# Altium footprint library PcbLib1.PcbLib: 3 footprints
Each footprint in its own frame and in the unit in brackets; x right, y up, seen from the top. Pads: shape width x height; smd on the part's side, far side on the other; paste and mask are expansions set on the pad; w line width, h text height; cw(c..) or ccw(c..) is an arc to the next point about the centre after c.
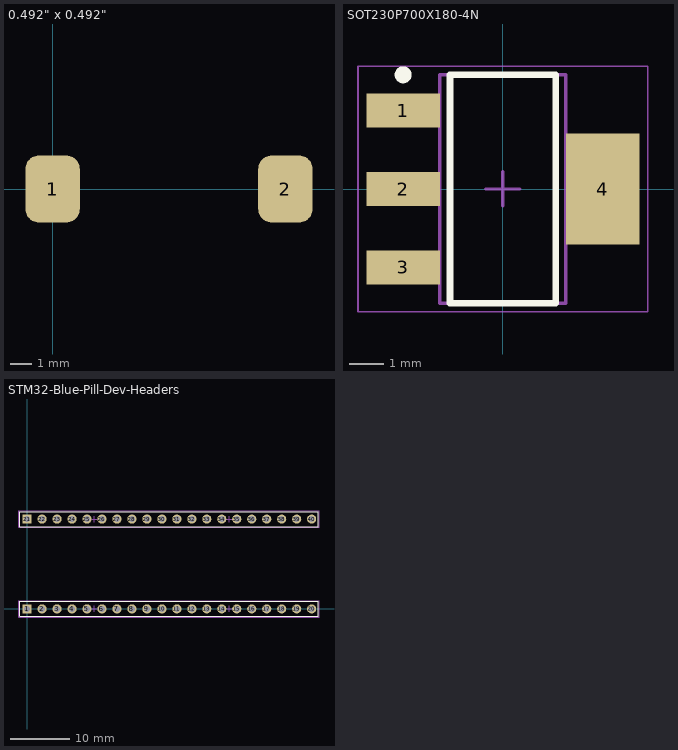
[diagram p0: the footprints below, top view; thin cyan lines are the x and y axes]

## 0.492" x 0.492" [mm]
pads (2):
  rrect50% 2.6x3.2 all layers, no hole: 1(0,0) 2(11.1,0)
3D body: height 6.5, standoff 0.01, extent -0.75,-6.25 11.75,6.25

## SOT230P700X180-4N [mm] "SOT223, 4-Leads, Body 6.50x7.00mm (avg), Pitch 2.30mm, IPC Medium Density"
height 1.8
pads (4):
  rect 2.15x1 smd: 1(-2.925,2.3) 2(-2.925,0) 3(-2.925,-2.3)
  rect 2.15x3.25 smd: 4(2.925,0)
Top Overlay:
  circle w0.25: c-2.925,3.35 r0.125
  lines w0.2: -1.55,-3.35 -1.55,3.35 1.55,3.35 1.55,-3.35 -1.55,-3.35
Mechanical 13:
  lines w0.1: -1.85,-3.35 -1.85,3.35 1.85,3.35 1.85,-3.35 -1.85,-3.35
Mechanical 15:
  lines w0.05: -4.25,-3.6 -4.25,3.6 4.25,3.6 4.25,-3.6 -4.25,-3.6
  lines w0.1: -0.5,0 0.5,0 ; 0,-0.5 0,0.5
3D body "SOT230P700X180-4N.step": height 1.8, standoff 0, extent -3.5,-3.35 3.5,3.35

## STM32-Blue-Pill-Dev-Headers [mm]
pads (40):
  rect 1.55x1.55 hole 1.02: 1(0,0) 21(0,15.24)
  round 1.55 hole 1.02: 2(2.54,0) 3(5.08,0) 4(7.62,0) 5(10.16,0) 6(12.7,0) 7(15.24,0) 8(17.78,0) 9(20.32,0) 10(22.86,0) 11(25.4,0) 12(27.94,0) 13(30.48,0) 14(33.02,0) 15(35.56,0) 16(38.1,0) 17(40.64,0) 18(43.18,0) 19(45.72,0) 20(48.26,0) 22(2.54,15.24) 23(5.08,15.24) 24(7.62,15.24) 25(10.16,15.24) 26(12.7,15.24) 27(15.24,15.24) 28(17.78,15.24) 29(20.32,15.24) 30(22.86,15.24) 31(25.4,15.24) 32(27.94,15.24) 33(30.48,15.24) 34(33.02,15.24) 35(35.56,15.24) 36(38.1,15.24) 37(40.64,15.24) 38(43.18,15.24) 39(45.72,15.24) 40(48.26,15.24)
Top Overlay:
  lines w0.2: 21.59,-1.27 49.403,-1.27 49.403,1.27 46.482,1.27 21.59,1.27 ; 21.59,13.97 49.403,13.97 49.403,16.51 46.482,16.51 21.59,16.51 ; 24.13,-1.27 -1.27,-1.27 -1.27,1.27 24.13,1.27 ; 24.13,13.97 -1.27,13.97 -1.27,16.51 24.13,16.51
Mechanical 15:
  lines w0.05: 21.49,-1.37 49.503,-1.37 49.503,1.37 21.49,1.37 ; 21.49,13.87 49.503,13.87 49.503,16.61 21.49,16.61 ; 24.23,-1.37 -1.37,-1.37 -1.37,1.37 24.23,1.37 ; 24.23,13.87 -1.37,13.87 -1.37,16.61 24.23,16.61
  lines w0.1: 10.93,0 11.93,0 ; 10.93,15.24 11.93,15.24 ; 11.43,-0.5 11.43,0.5 ; 11.43,14.74 11.43,15.74 ; 33.79,0 34.79,0 ; 33.79,15.24 34.79,15.24 ; 34.29,-0.5 34.29,0.5 ; 34.29,14.74 34.29,15.74